# EAGLE library part SN74HC251PWR (library SN74HC251PWR)
Data Selectors/Multiplexers With 3-State Outputs Source: Datasheet <http://www.ti.com/lit/gpn/SN74HC251>
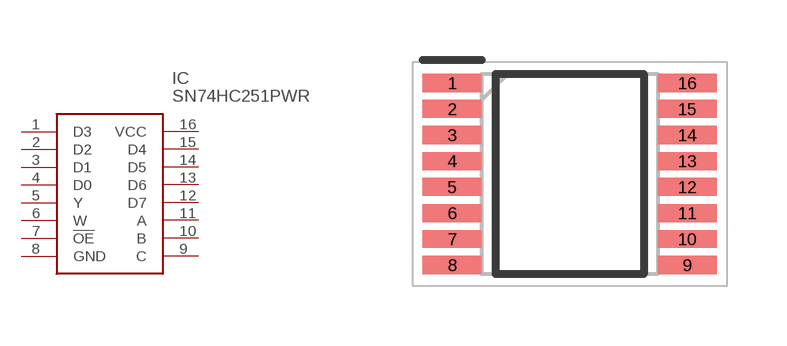
[diagram p0: symbol with the pads of SOP65P640X120-16N; footprint SOP65P640X120-16N]

Designator prefix IC

## SN74HC251PWR (Description: Data Selectors/Multiplexers With 3-State Outputs; Height: 1.2mm; Manufacturer_Name: Texas Instruments; Manufacturer_Part_Number: SN74HC251PWR; Mouser_Part_Number: 595-SN74HC251PWR; Mouser_Price-Stock: https://www.mouser.co.uk/ProductDetail/Texas-Instruments/SN74HC251PWR?qs=AgY10sKTvDL3Dq0JLvT9bg%3D%3D)  [SOP65P640X120-16N]
1  D3
2  D2
3  D1
4  D0
5  Y
6  W
7  !OE
8  GND
9  C
10  B
11  A
12  D7
13  D6
14  D5
15  D4
16  VCC

## Footprint SOP65P640X120-16N (pad centres in mm)
PW0016A
smd 1.475 x 0.45: 1 -2.938,2.275; 2 -2.938,1.625; 3 -2.938,0.975; 4 -2.938,0.325; 5 -2.938,-0.325; 6 -2.938,-0.975; 7 -2.938,-1.625; 8 -2.938,-2.275; 9 2.938,-2.275; 10 2.938,-1.625; 11 2.938,-0.975; 12 2.938,-0.325; 13 2.938,0.325; 14 2.938,0.975; 15 2.938,1.625; 16 2.938,2.275